# Altium integrated library SWARMUS_LIB.IntLib: 63 symbols
Pins are listed as number, name and electrical type; pins without a type are passive.

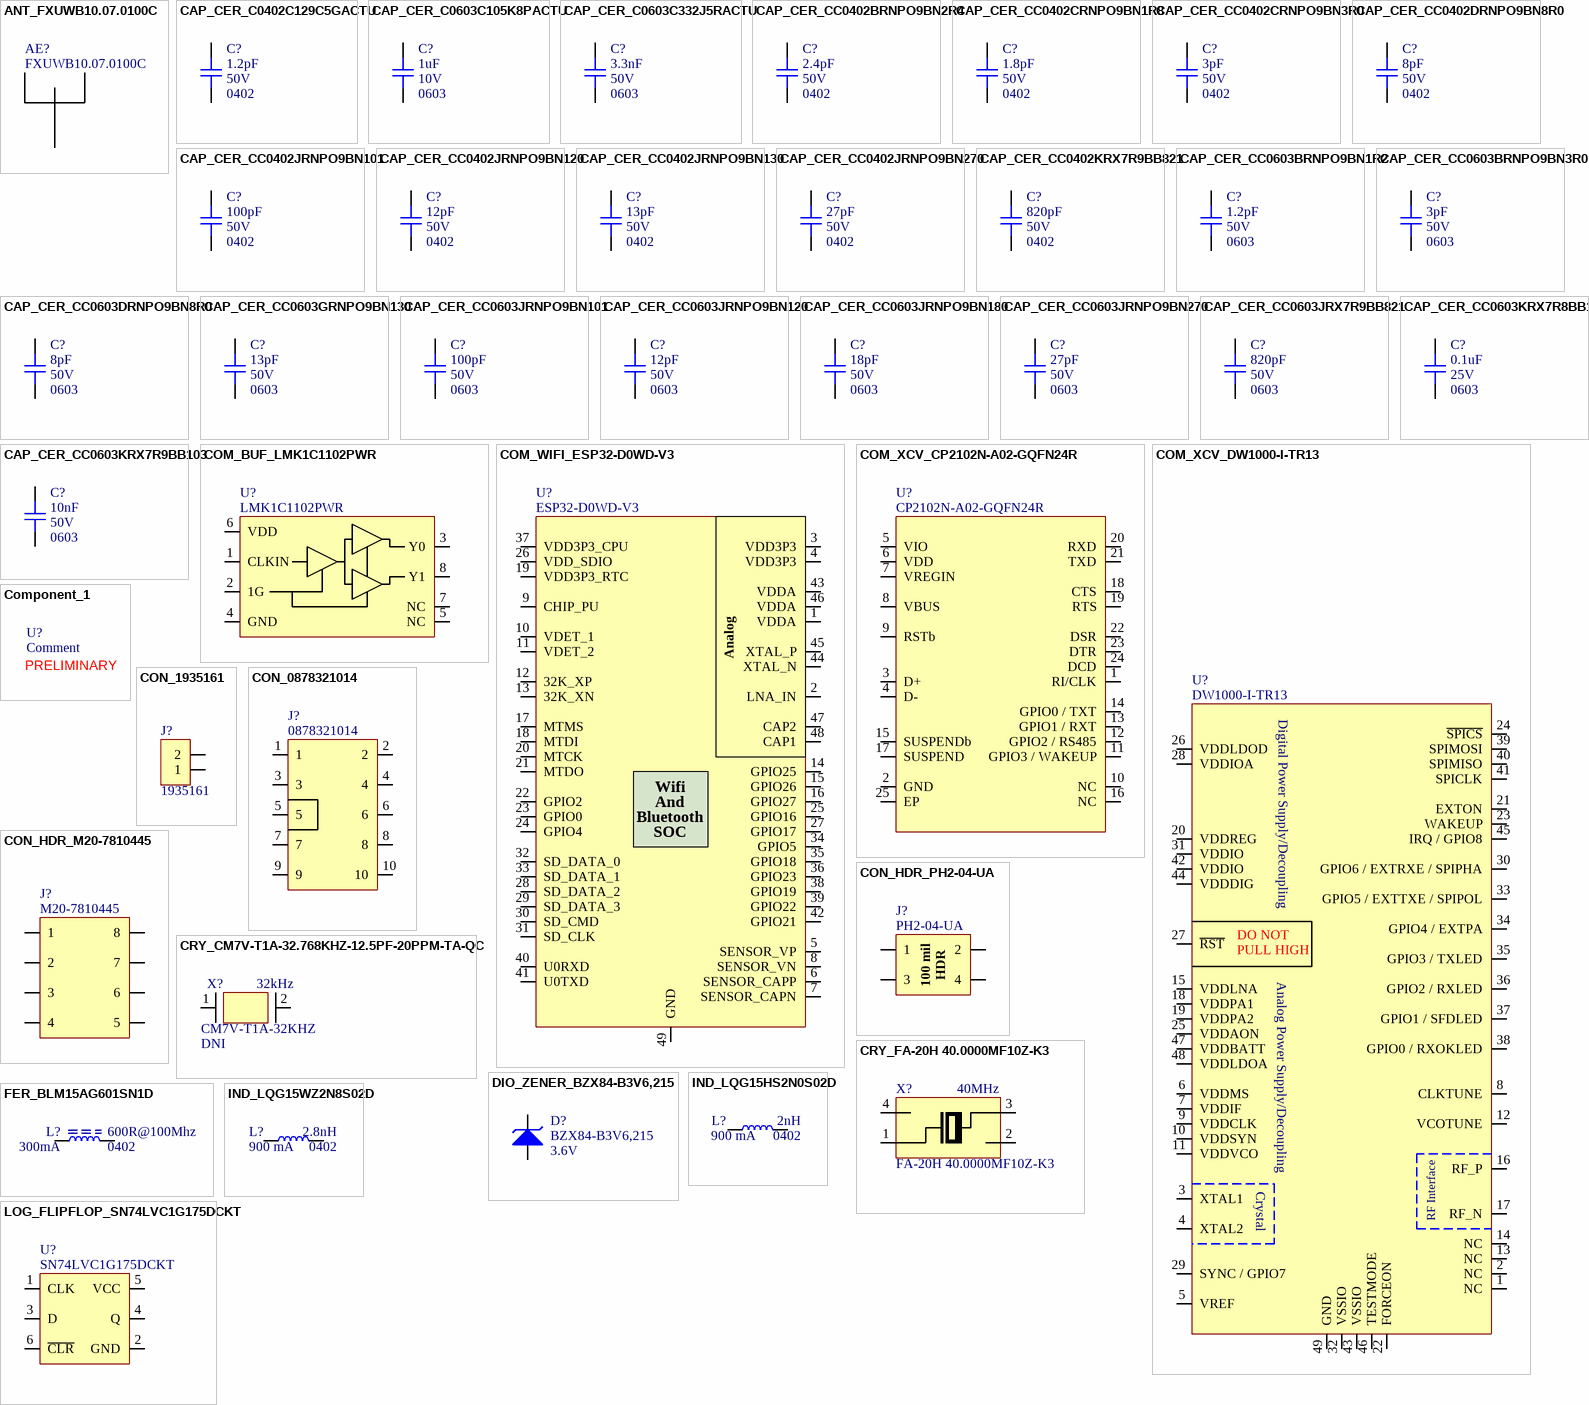
[diagram p0: symbols ANT_FXUWB10.07.0100C to LOG_FLIPFLOP_SN74LVC1G175DCKT]

## ANT_FXUWB10.07.0100C
designator AE?, comment FXUWB10.07.0100C
External antenna - UWB - UMCC plug; Value: 3.0-10.3GHz; GRAMS Lib Spec: 2.8; HelpURL: http://cdn.taoglas.com/datasheets/FXUWB10.07.0100C.pdf; CreatedBy/Date: Philippe Arsenault; Temperature: -40°C to 85°C; Package: 50 ohm; Assembly Type: UMCC plug; Part Number #1: FXUWB10.07.0100C; Supplier 1: Digi-Key; Supplier Part Number 1: 931-1523-ND

## CAP_CER_C0402C129C5GACTU
designator C?, comment value 1.2pF  Package: 0402  Voltage Rating: 50V  (hidden comment: C0402C129C5GACTU)
CAP - CER 1.2pF 50V ±0.25pF C0G, NP0 - 0402; Manufacturer #1: KEMET; GRAMS Lib Spec: 2.8; Magnetic Material: Unknown; Polarized: NO; Assembly Type: SMD; CreatedBy/Date: Philippe Arsenault/ 2020-07-24; Current Rating: *; HelpURL: https://content.kemet.com/datasheets/KEM_C1003_C0G_SMD.pdf; Manufacturer #2: *; Note: *; Part Number #1: C0402C129C5GACTU; Part Number #2: *; Power Max: *; Temperature: -55°C ~ 125°C; Tolerance: ±0.25pF; VerifiedBy: Louis-Daniel Gaulin / 2020-07-29; Cryo: UNKNOWN; Supplier 1: Digi-Key; Supplier Part Number 1: 399-1001-1-ND
footprint CAP_CER_0402 (Ceramic Capacitor - 0402)
pins: 1, 2

## CAP_CER_C0603C105K8PACTU
designator C?, comment value 1uF  Package: 0603  Voltage Rating: 10V  (hidden comment: C0603C105K8PACTU)
CAP - CER 1uF 10V 10% X5R - 0603; Manufacturer #1: KEMET; GRAMS Lib Spec: 2.8; Magnetic Material: Unknown; Polarized: NO; Tolerance: 10%; Current Rating: *; Power Max: *; HelpURL: https://content.kemet.com/datasheets/KEM_C1006_X5R_SMD.pdf; CreatedBy/Date: Hubert Dube - 21/07/20; VerifiedBy: Louis-Daniel Gaulin - 21/07/20; Temperature: -55°C ~ 85°C; Manufacturer #2: *; Assembly Type: SMD; Part Number #2: *; Part Number #1: C0603C105K8PACTU; Cryo: UNKNOWN; Supplier 1: Digi-Key; Supplier Part Number 1: 399-3118-1-ND
footprint CAP_CER_0603 (Ceramic Capacitor - 0603)
pins: 1, 2

## CAP_CER_C0603C332J5RACTU
designator C?, comment value 3.3nF  Package: 0603  Voltage Rating: 50V  (hidden comment: C0603C332J5RACTU)
CAP - CER 3.3nF 50V 5% X7R - 0603; Manufacturer #1: KEMET; GRAMS Lib Spec: 2.8; Magnetic Material: Unknown; Polarized: NO; Tolerance: 5%; Current Rating: *; Power Max: *; HelpURL: http://www.farnell.com/datasheets/2745899.pdf?src-supplier=Newark; CreatedBy/Date: Hubert Dube - 21/07/20; VerifiedBy: Louis-Daniel Gaulin - 21/07/20; Temperature: -55°C ~ 125°C; Manufacturer #2: *; Assembly Type: SMD; Part Number #2: *; Part Number #1: C0603C332J5RACTU; Cryo: UNKNOWN; Supplier 1: Digi-Key; Supplier Part Number 1: 399-7901-1-ND
footprint CAP_CER_0603 (Ceramic Capacitor - 0603)
pins: 1, 2

## CAP_CER_CC0402BRNPO9BN2R4
designator C?, comment value 2.4pF  Package: 0402  Voltage Rating: 50V  (hidden comment: CC0402BRNPO9BN2R4)
CAP - CER 2.4PF 50V C0G/NP0 - 0402; Manufacturer #1: Yageo; Tolerance: ±0.1pF; GRAMS Lib Spec: 2.8; Magnetic Material: Unknown; Polarized: NO; Current Rating: *; Power Max: *; HelpURL: https://www.yageo.com/upload/media/product/productsearch/datasheet/mlcc/UPY-GP_NP0_16V-to-50V_18.pdf; CreatedBy/Date: Hubert Dube - 04/10/20; VerifiedBy: Louis-Daniel Gaulin - 09/11/2020; Temperature: -55°C ~ 125°C; Manufacturer #2: *; Assembly Type: SMD; Part Number #2: *; Part Number #1: CC0402BRNPO9BN2R4; Cryo: UNKNOWN; Supplier 1: Digi-Key; Supplier Part Number 1: 311-3703-1-ND
footprint CAP_CER_0402 (Ceramic Capacitor - 0402)
pins: 1, 2

## CAP_CER_CC0402CRNPO9BN1R8
designator C?, comment value 1.8pF  Package: 0402  Voltage Rating: 50V  (hidden comment: CC0402CRNPO9BN1R8)
CAP - CER 1.8PF 50V C0G/NP0 - 0402; Manufacturer #1: Yageo; Tolerance: ±0.25pF; GRAMS Lib Spec: 2.8; Magnetic Material: Unknown; Polarized: NO; Current Rating: *; Power Max: *; HelpURL: https://www.yageo.com/upload/media/product/productsearch/datasheet/mlcc/UPY-GP_NP0_16V-to-50V_18.pdf; CreatedBy/Date: Hubert Dube - 04/10/20; VerifiedBy: Louis-Daniel Gaulin - 09/11/2020; Temperature: -55°C ~ 125°C; Manufacturer #2: *; Assembly Type: SMD; Part Number #2: *; Part Number #1: CC0402CRNPO9BN1R8; Cryo: UNKNOWN; Supplier 1: Digi-Key; Supplier Part Number 1: 311-1004-1-ND
footprint CAP_CER_0402 (Ceramic Capacitor - 0402)
pins: 1, 2

## CAP_CER_CC0402CRNPO9BN3R0
designator C?, comment value 3pF  Package: 0402  Voltage Rating: 50V  (hidden comment: CC0402CRNPO9BN3R0)
CAP - CER 3pF 50V ±0.25pF C0G, NP0 - 0402; Manufacturer #1: Yageo; GRAMS Lib Spec: 2.8; Magnetic Material: Unknown; Polarized: NO; Assembly Type: SMD; CreatedBy/Date: Philippe Arsenault/ 2020-07-24; Current Rating: *; HelpURL: https://www.yageo.com/upload/media/product/productsearch/datasheet/mlcc/UPY-GP_NP0_16V-to-50V_18.pdf; Manufacturer #2: *; Note: *; Part Number #1: CC0402CRNPO9BN3R0; Part Number #2: *; Power Max: *; Temperature: -55°C ~ 125°C; Tolerance: ±0.25pF; VerifiedBy: Louis-Daniel Gaulin / 2020-07-29; Cryo: UNKNOWN; Supplier 1: Digi-Key; Supplier Part Number 1: 311-1007-1-ND
footprint CAP_CER_0402 (Ceramic Capacitor - 0402)
pins: 1, 2

## CAP_CER_CC0402DRNPO9BN8R0
designator C?, comment value 8pF  Package: 0402  Voltage Rating: 50V  (hidden comment: CC0402DRNPO9BN8R0)
CAP - CER 8PF 50V C0G/NP0 - 0402; Manufacturer #1: Yageo; Tolerance: ±0.5pF; GRAMS Lib Spec: 2.8; Magnetic Material: Unknown; Polarized: NO; Current Rating: *; Power Max: *; HelpURL: https://www.yageo.com/upload/media/product/productsearch/datasheet/mlcc/UPY-GP_NP0_16V-to-50V_18.pdf; CreatedBy/Date: Hubert Dube - 04/10/20; VerifiedBy: Louis-Daniel Gaulin - 09/11/2020; Temperature: -55°C ~ 125°C; Manufacturer #2: *; Assembly Type: SMD; Part Number #2: *; Part Number #1: CC0402DRNPO9BN8R0; Cryo: UNKNOWN; Supplier 1: Digi-Key; Supplier Part Number 1: 311-1639-1-ND
footprint CAP_CER_0402 (Ceramic Capacitor - 0402)
pins: 1, 2

## CAP_CER_CC0402JRNPO9BN101
designator C?, comment value 100pF  Package: 0402  Voltage Rating: 50V  (hidden comment: CC0402JRNPO9BN101)
CAP - CER 100pF 50V ±5% C0G,CP0 - 0402; Manufacturer #1: Yageo; GRAMS Lib Spec: 2.8; Magnetic Material: Unknown; Polarized: NO; Assembly Type: SMD; CreatedBy/Date: Philippe Arsenault/ 2020-07-24; Current Rating: *; HelpURL: https://www.yageo.com/upload/media/product/productsearch/datasheet/mlcc/UPY-GPHC_X7R_6.3V-to-50V_18.pdf; Manufacturer #2: *; Note: *; Part Number #1: CC0402JRNPO9BN101; Part Number #2: *; Power Max: *; Temperature: -55°C ~ 125°C; Tolerance: ±5%; VerifiedBy: Louis-Daniel Gaulin / 2020-07-29; Cryo: UNKNOWN; Supplier 1: Digi-Key; Supplier Part Number 1: 311-1024-1-ND
footprint CAP_CER_0402 (Ceramic Capacitor - 0402)
pins: 1, 2

## CAP_CER_CC0402JRNPO9BN120
designator C?, comment value 12pF  Package: 0402  Voltage Rating: 50V  (hidden comment: CC0402JRNPO9BN120)
CAP - CER 12pF 50V ±5% C0G, NP0 - 0402; Manufacturer #1: Yageo; GRAMS Lib Spec: 2.8; Magnetic Material: Unknown; Polarized: NO; Assembly Type: SMD; CreatedBy/Date: Philippe Arsenault/ 2020-07-24; Current Rating: *; HelpURL: https://www.yageo.com/upload/media/product/productsearch/datasheet/mlcc/UPY-GP_NP0_16V-to-50V_18.pdf; Manufacturer #2: *; Note: *; Part Number #1: CC0402JRNPO9BN120; Part Number #2: *; Power Max: *; Temperature: -55°C ~ 125°C; Tolerance: ±5%; VerifiedBy: Louis-Daniel Gaulin / 2020-07-29; Cryo: UNKNOWN; Supplier 1: Digi-Key; Supplier Part Number 1: 311-1016-1-ND
footprint CAP_CER_0402 (Ceramic Capacitor - 0402)
pins: 1, 2

## CAP_CER_CC0402JRNPO9BN130
designator C?, comment value 13pF  Package: 0402  Voltage Rating: 50V  (hidden comment: CC0402JRNPO9BN130)
CAP - CER 13PF 50V C0G/NP0 - 0402; Manufacturer #1: Yageo; Tolerance: ±5%; GRAMS Lib Spec: 2.8; Magnetic Material: Unknown; Polarized: NO; Current Rating: *; Power Max: *; HelpURL: https://www.yageo.com/upload/media/product/productsearch/datasheet/mlcc/UPY-GP_NP0_16V-to-50V_18.pdf; CreatedBy/Date: Hubert Dube - 04/10/20; VerifiedBy: Louis-Daniel Gaulin - 09/11/2020; Temperature: -55°C ~ 125°C; Manufacturer #2: *; Assembly Type: SMD; Part Number #2: *; Part Number #1: CC0402JRNPO9BN130; Cryo: UNKNOWN; Supplier 1: Digi-Key; Supplier Part Number 1: 311-3754-1-ND
footprint CAP_CER_0402 (Ceramic Capacitor - 0402)
pins: 1, 2

## CAP_CER_CC0402JRNPO9BN270
designator C?, comment value 27pF  Package: 0402  Voltage Rating: 50V  (hidden comment: CC0402JRNPO9BN270)
CAP - CER 27pF 50V ±5% C0G, NP0 - 0402; Manufacturer #1: Yageo; GRAMS Lib Spec: 2.8; Magnetic Material: Unknown; Polarized: NO; Assembly Type: SMD; CreatedBy/Date: Philippe Arsenault/ 2020-07-24; Current Rating: *; HelpURL: https://www.yageo.com/upload/media/product/productsearch/datasheet/mlcc/UPY-GP_NP0_16V-to-50V_18.pdf; Manufacturer #2: *; Note: *; Part Number #1: CC0402JRNPO9BN270; Part Number #2: *; Power Max: *; Temperature: -55°C ~ 125°C; Tolerance: ±5%; VerifiedBy: Louis-Daniel Gaulin / 2020-07-29; Cryo: UNKNOWN; Supplier 1: Digi-Key; Supplier Part Number 1: 311-1019-1-ND
footprint CAP_CER_0402 (Ceramic Capacitor - 0402)
pins: 1, 2

## CAP_CER_CC0402KRX7R9BB821
designator C?, comment value 820pF  Package: 0402  Voltage Rating: 50V  (hidden comment: CC0402KRX7R9BB821)
CAP - CER 820pF 50V ±10% X7R - 0402; Manufacturer #1: Yageo; GRAMS Lib Spec: 2.8; Magnetic Material: Unknown; Polarized: NO; Assembly Type: SMD; CreatedBy/Date: Philippe Arsenault/ 2020-07-24; Current Rating: *; HelpURL: https://www.yageo.com/upload/media/product/productsearch/datasheet/mlcc/UPY-GPHC_X7R_6.3V-to-50V_18.pdf; Manufacturer #2: *; Note: *; Part Number #1: CC0402KRX7R9BB821; Part Number #2: *; Power Max: *; Temperature: -55°C ~ 125°C; Tolerance: ±10%; VerifiedBy: Louis-Daniel Gaulin / 2020-07-29; Cryo: UNKNOWN; Supplier 1: Digi-Key; Supplier Part Number 1: 311-1727-1-ND
footprint CAP_CER_0402 (Ceramic Capacitor - 0402)
pins: 1, 2

## CAP_CER_CC0603BRNPO9BN1R2
designator C?, comment value 1.2pF  Package: 0603  Voltage Rating: 50V  (hidden comment: CC0603BRNPO9BN1R2)
CAP - CER 1.2pF 50V ±0.1pF C0G/NP0 - 0603; Manufacturer #1: Yageo; GRAMS Lib Spec: 2.8; Magnetic Material: UNKNOWN; Polarized: NO; Tolerance: ±0.1pF; Current Rating: *; Power Max: *; HelpURL: https://www.yageo.com/upload/media/product/productsearch/datasheet/mlcc/UPY-GP_NP0_16V-to-50V_18.pdf; CreatedBy/Date: Philippe Arsenault/2020-07-21; VerifiedBy: Louis-Daniel Gaulin / 2020-07-23; Temperature: -55°C ~ 125°C; Manufacturer #2: *; Note: *; Assembly Type: SMD; Part Number #2: *; Part Number #1: CC0603BRNPO9BN1R2; Cryo: UNKNOWN; Supplier 1: Digi-Key; Supplier Part Number 1: 311-3825-1-ND
footprint CAP_CER_0603 (Ceramic Capacitor - 0603)
pins: 1, 2

## CAP_CER_CC0603BRNPO9BN3R0
designator C?, comment value 3pF  Package: 0603  Voltage Rating: 50V  (hidden comment: CC0603BRNPO9BN3R0)
CAP - CER 3pF 50V ±0.1pF C0G/NP0 - 0603; Manufacturer #1: Yageo; GRAMS Lib Spec: 2.8; Magnetic Material: UNKNOWN; Polarized: NO; Tolerance: ±0.1pF; Current Rating: *; Power Max: *; HelpURL: https://www.yageo.com/upload/media/product/productsearch/datasheet/mlcc/UPY-GP_NP0_16V-to-50V_18.pdf; CreatedBy/Date: Philippe Arsenault/2020-07-21; VerifiedBy: Louis-Daniel Gaulin / 2020-07-22; Temperature: -55°C ~ 125°C; Manufacturer #2: *; Note: *; Assembly Type: SMD; Part Number #2: *; Part Number #1: CC0603BRNPO9BN3R0; Cryo: UNKNOWN; Supplier 1: Digi-Key; Supplier Part Number 1: 311-3831-1-ND
footprint CAP_CER_0603 (Ceramic Capacitor - 0603)
pins: 1, 2

## CAP_CER_CC0603DRNPO9BN8R0
designator C?, comment value 8pF  Package: 0603  Voltage Rating: 50V  (hidden comment: CC0603DRNPO9BN8R0)
CAP - CER 8pF 50V ±0.5pF C0G/NP0 - 0603; Manufacturer #1: Yageo; Tolerance: ±0.5pF (6.25%); GRAMS Lib Spec: 2.8; Magnetic Material: Unknown; Polarized: NO; Current Rating: *; Power Max: *; HelpURL: https://www.yageo.com/upload/media/product/productsearch/datasheet/mlcc/UPY-GP_NP0_16V-to-50V_18.pdf; CreatedBy/Date: Hubert Dube - 21/07/20; VerifiedBy: Louis-Daniel Gaulin / 2020-07-22; Temperature: -55°C ~ 125°C; Manufacturer #2: *; Assembly Type: SMD; Part Number #2: *; Part Number #1: CC0603DRNPO9BN8R0; Cryo: UNKNOWN; Supplier 1: Digi-Key; Supplier Part Number 1: 311-1057-1-ND
footprint CAP_CER_0603 (Ceramic Capacitor - 0603)
pins: 1, 2

## CAP_CER_CC0603GRNPO9BN130
designator C?, comment value 13pF  Package: 0603  Voltage Rating: 50V  (hidden comment: CC0603GRNPO9BN130)
CAP - CER 13pF 50V 2% C0G/NP0 - 0603; Manufacturer #1: Yageo; GRAMS Lib Spec: 2.8; Magnetic Material: Unknown; Polarized: NO; Tolerance: 2%; Current Rating: *; Power Max: *; HelpURL: https://www.yageo.com/upload/media/product/productsearch/datasheet/mlcc/UPY-GP_NP0_16V-to-50V_18.pdf; CreatedBy/Date: Hubert Dube - 21/07/20; VerifiedBy: Louis-Daniel Gaulin / 2020-07-22; Temperature: -55°C ~ 125°C; Manufacturer #2: *; Assembly Type: SMD; Part Number #2: *; Part Number #1: CC0603GRNPO9BN130; Cryo: UNKNOWN; Supplier 1: Digi-Key; Supplier Part Number 1: 311-3919-1-ND
footprint CAP_CER_0603 (Ceramic Capacitor - 0603)
pins: 1, 2

## CAP_CER_CC0603JRNPO9BN101
designator C?, comment value 100pF  Package: 0603  Voltage Rating: 50V  (hidden comment: CC0603JRNPO9BN101)
CAP - CER 100pF 50V 5% C0G/NP0 - 0603; Manufacturer #1: Yageo; GRAMS Lib Spec: 2.8; Magnetic Material: Unknown; Polarized: NO; Tolerance: 5%; Current Rating: *; Power Max: *; HelpURL: https://www.yageo.com/upload/media/product/productsearch/datasheet/mlcc/UPY-GP_NP0_16V-to-50V_18.pdf; CreatedBy/Date: Hubert Dube - 21/07/20; VerifiedBy: Louis-Daniel Gaulin - 21/07/20; Temperature: -55°C ~ 125°C; Manufacturer #2: *; Assembly Type: SMD; Part Number #2: *; Part Number #1: CC0603JRNPO9BN101; Cryo: UNKNOWN; Supplier 1: Digi-Key; Supplier Part Number 1: 311-1069-1-ND
footprint CAP_CER_0603 (Ceramic Capacitor - 0603)
pins: 1, 2

## CAP_CER_CC0603JRNPO9BN120
designator C?, comment value 12pF  Package: 0603  Voltage Rating: 50V  (hidden comment: CC0603JRNPO9BN120)
CAP - CER 12pF 50V 5% C0G/NP0 - 0603; Manufacturer #1: Yageo; GRAMS Lib Spec: 2.8; Magnetic Material: Unknown; Polarized: No; Tolerance: 5%; Current Rating: *; Power Max: *; HelpURL: https://www.yageo.com/upload/media/product/productsearch/datasheet/mlcc/UPY-GP_NP0_16V-to-50V_18.pdf; CreatedBy/Date: Philippe Arsenault/2020-07-22; VerifiedBy: Louis-Daniel Gaulin / 2020-07-23; Temperature: -55°C ~ 125°C; Manufacturer #2: *; Note: *; Assembly Type: SMD; Part Number #2: *; Part Number #1: CC0603JRNPO9BN120; Cryo: Unknown; Supplier 1: Digi-Key; Supplier Part Number 1: 311-1059-1-ND
footprint CAP_CER_0603 (Ceramic Capacitor - 0603)
pins: 1, 2

## CAP_CER_CC0603JRNPO9BN180
designator C?, comment value 18pF  Package: 0603  Voltage Rating: 50V  (hidden comment: CC0603JRNPO9BN180)
CAP - CER 18pF 50V 5% C0G/NP0 - 0603; Manufacturer #1: Yageo; GRAMS Lib Spec: 2.8; Magnetic Material: Unknown; Polarized: No; Tolerance: 5%; Current Rating: *; Power Max: *; HelpURL: https://www.yageo.com/upload/media/product/productsearch/datasheet/mlcc/UPY-GP_NP0_16V-to-50V_18.pdf; CreatedBy/Date: Philippe Arsenault/2020-07-22; VerifiedBy: Louis-Daniel Gaulin / 2020-07-23; Temperature: -55°C ~ 125°C; Manufacturer #2: *; Note: *; Assembly Type: SMD; Part Number #2: *; Part Number #1: CC0603JRNPO9BN180; Cryo: Unknown; Supplier 1: Digi-Key; Supplier Part Number 1: 311-1061-1-ND
footprint CAP_CER_0603 (Ceramic Capacitor - 0603)
pins: 1, 2

## CAP_CER_CC0603JRNPO9BN270
designator C?, comment value 27pF  Package: 0603  Voltage Rating: 50V  (hidden comment: CC0603JRNPO9BN270)
CAP - CER 27pF 50V 5% C0G/NP0 - 0603; Manufacturer #1: Yageo; GRAMS Lib Spec: 2.8; Magnetic Material: Unknown; Polarized: No; Tolerance: 5%; Current Rating: *; Power Max: *; HelpURL: https://www.yageo.com/upload/media/product/productsearch/datasheet/mlcc/UPY-GP_NP0_16V-to-50V_18.pdf; CreatedBy/Date: Philippe Arsenault/2020-07-22; VerifiedBy: Louis-Daniel Gaulin / 2020-07-23; Temperature: -55°C ~ 125°C; Manufacturer #2: *; Note: *; Assembly Type: SMD; Part Number #2: *; Part Number #1: CC0603JRNPO9BN270; Cryo: Unknown; Supplier 1: Digi-Key; Supplier Part Number 1: 311-1063-1-ND
footprint CAP_CER_0603 (Ceramic Capacitor - 0603)
pins: 1, 2

## CAP_CER_CC0603JRX7R9BB821
designator C?, comment value 820pF  Package: 0603  Voltage Rating: 50V  (hidden comment: CC0603JRX7R9BB821)
CAP - CER 820pF 50V 5% X7R  - 0603; Manufacturer #1: Yageo; GRAMS Lib Spec: 2.8; Magnetic Material: Unknown; Polarized: No; Tolerance: 5%; Current Rating: *; Power Max: *; HelpURL: https://www.yageo.com/upload/media/product/productsearch/datasheet/mlcc/UPY-GPHC_X7R_6.3V-to-50V_18.pdf; CreatedBy/Date: Philippe Arsenault/2020-07-22; VerifiedBy: Louis-Daniel Gaulin / 2020-07-23; Temperature: -55°C ~ 125°C; Manufacturer #2: *; Note: *; Assembly Type: SMD; Part Number #2: *; Part Number #1: CC0603JRX7R9BB821; Cryo: Unknown; Supplier 1: Digi-Key; Supplier Part Number 1: 311-4023-1-ND
footprint CAP_CER_0603 (Ceramic Capacitor - 0603)
pins: 1, 2

## CAP_CER_CC0603KRX7R8BB104
designator C?, comment value 0.1uF  Package: 0603  Voltage Rating: 25V  (hidden comment: CC0603KRX7R8BB104)
CAP - CER 0.1uF 25V 10% X7R - 0603; Manufacturer #1: Yageo; GRAMS Lib Spec: 2.8; Magnetic Material: Unknown; Polarized: NO; Tolerance: 10%; Current Rating: *; Power Max: *; HelpURL: https://www.yageo.com/upload/media/product/productsearch/datasheet/mlcc/UPY-GPHC_X7R_6.3V-to-50V_18.pdf; CreatedBy/Date: Hubert Dube - 21/07/20; VerifiedBy: Louis-Daniel Gaulin - 21/07/20; Temperature: -55°C ~ 125°C; Manufacturer #2: *; Assembly Type: SMD; Part Number #2: *; Part Number #1: CC0603KRX7R8BB104; Cryo: UNKNOWN; Supplier 1: Digi-Key; Supplier Part Number 1: 311-1341-2-ND
footprint CAP_CER_0603 (Ceramic Capacitor - 0603)
pins: 1, 2

## CAP_CER_CC0603KRX7R9BB103
designator C?, comment value 10nF  Package: 0603  Voltage Rating: 50V  (hidden comment: CC0603KRX7R9BB103)
CAP - CER 10nF 50V 10% X7R - 0603; Manufacturer #1: Yageo; GRAMS Lib Spec: 2.8; Magnetic Material: Unknown; Polarized: NO; Tolerance: 10%; Current Rating: *; Power Max: *; HelpURL: https://www.yageo.com/upload/media/product/productsearch/datasheet/mlcc/UPY-GPHC_X7R_6.3V-to-50V_18.pdf; CreatedBy/Date: Hubert Dube - 21/07/20; VerifiedBy: Louis-Daniel Gaulin - 21/07/20; Temperature: -55°C ~ 125°C; Manufacturer #2: *; Assembly Type: SMD; Part Number #2: *; Part Number #1: CC0603KRX7R9BB103; Cryo: UNKNOWN; Supplier 1: Digi-Key; Supplier Part Number 1: 311-1085-1-ND
footprint CAP_CER_0603 (Ceramic Capacitor - 0603)
pins: 1, 2

## COM_BUF_LMK1C1102PWR
designator U?, comment LMK1C1102PWR
COM - BUF - Clock buffer 3V3, 2V5, 1V8 2 Channel - TSSOP 8; Manufacturer #1: Texas Instruments; Voltage Rating: 1.71V ~ 1.89V, 2.375V ~ 2.625V, 3.135V ~ 3.465V; Current Rating: Input +-20mA ; Output +- 50mA; Power Max: 132mW; GRAMS Lib Spec: 2.8; Magnetic Material: Unknown; Polarized: Yes; Cryo: No; Value: *; Tolerance: *; HelpURL: https://www.ti.com/lit/ds/symlink/lmk1c1102.pdf?ts=1595262014854&ref_url=https%253A%252F%252Fwww.ti.com%252Fproduct%252FLMK1C1102%253Futm_source%253Dgoogle%2526utm_medium%253Dcpc%2526utm_campaign%253Dasc-null-null-GPN_EN-cpc-pf-google-wwe%2526utm_content%253DLMK1C1102%2526ds_k%253DLMK1C1102%2526DCM%253Dyes%2526gclid%253DCjwKCAjwgdX4BRB_EiwAg8O8HUIvo-ksMfq8YInqTklLXWuMoCGXxsnhq04Fqr4kdDFQPSc0fYG9iRoCPvAQAvD_BwE%2526gclsrc%253Daw.ds; CreatedBy/Date: Philippe Arsenault/20-07-2020; VerifiedBy: Louis-Daniel Gaulin / 23-07-2020; Temperature: –40°C to 125°C; Package: TSSOP 8 pin; Note: *; Assembly Type: SMT; Part Number #2: *; Part Number #1: LMK1C1102PWR
footprint COM_BUF_LMK1C1102PWR (TSOP, 8-Leads, Body 3,00x4,40mm, Pitch 0,65mm, IPC Medium Density)
pins: 1 CLKIN, 2 1G, 3 Y0, 4 GND, 5 NC, 6 VDD, 7 NC, 8 Y1

## COM_WIFI_ESP32-D0WD-V3
designator U?, comment ESP32-D0WD-V3
COM_WIFI - IC RF TxRx + MCU, WiFi 802.11b/g/n, Bluetooth 4.2 2.4GHz - 48-VFQFN Exposed Pad; Manufacturer #1: Espressif Systems; Voltage Rating: 2.3-3.63; Current Rating: Rx 100mA/Tx 240mA; Power Max: 900mW; GRAMS Lib Spec: 2.8; Magnetic Material: Unknown; Polarized: Yes; Cryo: No; Value: *; Tolerance: *; HelpURL: https://www.espressif.com/sites/default/files/documentation/esp32_datasheet_en.pdf; CreatedBy/Date: Hubert Dube/14-07-2020; Temperature: -40°C ~ 125°C; Package: VFQFN 48; Manufacturer #2: *; Note: *; Assembly Type: SMD; Part Number #2: *; Part Number #1: ESP32-D0WD-V3; Supplier 1: Digi-Key; Supplier Part Number 1: 1904-ESP32-D0WD-V3CT-ND
footprint COM_WIFI_ESP32-D0WD-V3
pins: 1 VDDA, 2 LNA_IN, 3 VDD3P3, 4 VDD3P3, 5 SENSOR_VP, 6 SENSOR_CAPP, 7 SENSOR_CAPN, 8 SENSOR_VN, 9 CHIP_PU, 10 VDET_1, 11 VDET_2, 12 32K_XP, 13 32K_XN, 14 GPIO25, 15 GPIO26, 16 GPIO27, 17 MTMS, 18 MTDI, 19 VDD3P3_RTC, 20 MTCK, 21 MTDO, 22 GPIO2, 23 GPIO0, 24 GPIO4, 25 GPIO16, 26 VDD_SDIO, 27 GPIO17, 28 SD_DATA_2, 29 SD_DATA_3, 30 SD_CMD, 31 SD_CLK, 32 SD_DATA_0, 33 SD_DATA_1, 34 GPIO5, 35 GPIO18, 36 GPIO23, 37 VDD3P3_CPU, 38 GPIO19, 39 GPIO22, 40 U0RXD, 41 U0TXD, 42 GPIO21, 43 VDDA, 44 XTAL_N, 45 XTAL_P, 46 VDDA, 47 CAP2, 48 CAP1, 49 GND
text: Analog; Wifi; And; Bluetooth; SOC

## COM_XCV_CP2102N-A02-GQFN24R
designator U?, comment CP2102N-A02-GQFN24R
COM_XCV - IC USB TO UART BRIDGE - 24-QFN (4x4); Manufacturer #1: Silicon Labs; Voltage Rating: 3V ~ 3.6V; Current Rating: 9.5mA; Power Max: 35mW; GRAMS Lib Spec: 2.8c; Magnetic Material: Unknown; Polarized: YES; Value: -; Tolerance: -; HelpURL: https://www.silabs.com/documents/public/data-sheets/cp2102n-datasheet.pdf; CreatedBy/Date: Louis-Daniel Gaulin / 06-10-2020; VerifiedBy: Philippe Arsenault/2020-11-06; Temperature: -40°C ~ 85°C (TA); Package: 24-QFN (4x4); Manufacturer #2: -; Note: -; Assembly Type: SMD; Part Number #2: -; Part Number #1: CP2102N-A02-GQFN24R; Supplier 1: Digi-Key; Supplier Part Number 1: 336-5888-1-ND
footprint COM_XCV_CP2102N-A02-GQFN24R (QFN, 24-Leads, Body 4.00x4.00mm, Pitch 0.50mm, Thermal Pad 2.55x2.55mm, IPC Medium Density)
pins: 1 RI/CLK, 2 GND, 3 D+, 4 D-, 5 VIO, 6 VDD, 7 VREGIN, 8 VBUS, 9 RSTb, 10 NC, 11 GPIO3 / WAKEUP, 12 GPIO2 / RS485, 13 GPIO1 / RXT, 14 GPIO0 / TXT, 15 SUSPENDb, 16 NC, 17 SUSPEND, 18 CTS, 19 RTS, 20 RXD, 21 TXD, 22 DSR, 23 DTR, 24 DCD, 25 EP

## COM_XCV_DW1000-I-TR13
designator U?, comment DW1000-I-TR13
COM - IC RF TxRx 802.15.4 IR-UWB DECAWAVE - 48-VFQFN EP; Voltage Rating: 2.8 - 3.6 V; Current Rating: Rx 64mA/Tx 31mA; GRAMS Lib Spec: 2.8; Magnetic Material: Unknown; Polarized: Yes; Cryo: No; Value: *; Tolerance: *; Power Max: *; HelpURL: https://www.decawave.com/sites/default/files/resources/DW1000-Datasheet-V2.12.pdf; CreatedBy/Date: Philippe Arsenault/13-07-2020; Temperature: -40°C ~ 85°C; Package: QFN 48; Manufacturer #1: Decawave; Manufacturer #2: Qorvo; Note: *; Assembly Type: SMT; Part Number #2: *; Part Number #1: DW1000-I-TR13; Supplier 1: Digi-Key; Supplier Part Number 1: 1479-1001-1-ND
footprint COM_XCV_DW1000-I-TR13 (QFN 48 package, 0.5mm pitch)
pins: 1 NC, 2 NC, 3 XTAL1, 4 XTAL2, 5 VREF, 6 VDDMS, 7 VDDIF, 8 CLKTUNE, 9 VDDCLK, 10 VDDSYN, 11 VDDVCO, 12 VCOTUNE, 13 NC, 14 NC, 15 VDDLNA, 16 RF_P, 17 RF_N, 18 VDDPA1, 19 VDDPA2, 20 VDDREG, 21 EXTON, 22 FORCEON, 23 WAKEUP, 24 ~{SPICS}, 25 VDDAON, 26 VDDLDOD, 27 ~{RST}, 28 VDDIOA, 29 SYNC / GPIO7, 30 GPIO6 / EXTRXE / SPIPHA, 31 VDDIO, 32 VSSIO, 33 GPIO5 / EXTTXE / SPIPOL, 34 GPIO4 / EXTPA, 35 GPIO3 / TXLED, 36 GPIO2 / RXLED, 37 GPIO1 / SFDLED, 38 GPIO0 / RXOKLED, 39 SPIMOSI, 40 SPIMISO, 41 SPICLK, 42 VDDIO, 43 VSSIO, 44 VDDDIG, 45 IRQ / GPIO8, 46 TESTMODE, 47 VDDBATT, 48 VDDLDOA, 49 GND
text: Digital Power Supply/Decoupling; DO NOT; PULL HIGH; Analog Power Supply/Decoupling; Crystal; RF Interface

## Component_1
designator U?, comment Comment
XXX - Description - Package; GRAMS Lib Spec: 2.7
text: PRELIMINARY

## CON_1935161
designator J?, comment 1935161
CON - TERM BLK 2POS SIDE ENTRY 5MM PCB - TH - 14-26 AWG; Manufacturer #1: Phoenix Contact; Current Rating: 17.5A; Magnetic Material: Unknown; Polarized: Yes; Voltage Rating: 400V; GRAMS Lib Spec: 2.8; Assembly Type: TH; Manufacturer #2: *; Note: *; Part Number #1: 1935161; Part Number #2: *; Package: TH; Power Max: *; Value: *; Temperature: -40 °C ~ 100 °C; HelpURL: https://media.digikey.com/pdf/Data%20Sheets/Phoenix%20Contact%20PDFs/1935161.pdf; CreatedBy/Date: Louis-Daniel Gaulin / 02-11-2020; Supplier 1: Digi-Key; Supplier Part Number 1: 277-1667-ND; Tolerance: *; VerifiedBy: Philippe Arsenault/2020-11-06; Cryo: UNKNOWN
footprint CON_ 1935161
pins: 1, 2

## CON_0878321014
designator J?, comment 0878321014
CON - HEADER SMD 10POS 2mm - SMD; Manufacturer #1: Molex; GRAMS Lib Spec: 2.8; Magnetic Material: Unknown; Polarized: YES; Value: *; Tolerance: *; Voltage Rating: *; Current Rating: *; Power Max: *; HelpURL: https://www.molex.com/webdocs/datasheets/pdf/en-us/0878321014_PCB_HEADERS.pdf; CreatedBy/Date: Hubert Dube - 8/10/2020; VerifiedBy: Louis-Daniel Gaulin / 12-11-2020; Temperature: -55°C ~ 105 °C; Package: SMD; Manufacturer #2: *; Assembly Type: SMD; Part Number #2: *; Part Number #1: 0878321014; Cryo: UNKNOWN; Supplier 1: Digi-Key; Supplier Part Number 1: WM14376CT-ND
footprint CON_0878321014
pins: 1, 2, 3, 4, 5, 6, 7, 8, 9, 10

## CON_HDR_M20-7810445
designator J?, comment M20-7810445
CONN RCPT 8POS 0.1 GOLD SMD; Manufacturer #1: Harwin Inc.; GRAMS Lib Spec: 2.8; Magnetic Material: Unknown; Polarized: NO; Value: *; Tolerance: *; Voltage Rating: *; Current Rating: *; Power Max: *; HelpURL: https://cdn.harwin.com/pdfs/M20-781.pdf; CreatedBy/Date: Hubert Dube - 31/10/2020; VerifiedBy: Louis-Daniel Gaulin - 09/11/2020; Temperature: -40°C ~ 105°C; Package: SMD; Manufacturer #2: *; Assembly Type: SMD; Part Number #2: *; Part Number #1: M20-7810445; Cryo: UNKNOWN; Supplier 1: Digi-Key; Supplier Part Number 1: 952-3209-ND
footprint CON_HDR_M20-7810445R
pins: 1, 2, 3, 4, 5, 6, 7, 8

## CON_HDR_PH2-04-UA
designator J?, comment PH2-04-UA
CON - Header 4 positions 2x2  0.100" - TH; Manufacturer #1: Adam Tech; Current Rating: 3A; GRAMS Lib Spec: 2.8; Magnetic Material: Unknown; Polarized: Yes; Voltage Rating: 250 VAC; Assembly Type: TH; CreatedBy/Date: Louis-Daniel Gaulin / 30-07-2020; HelpURL: http://www.adam-tech.com/downloader.php?p=PH2-XX-UA.pdf; Manufacturer #2: *; Package: TH; Part Number #2: *; Power Max: *; Supplier 1: Digi-Key; Supplier Part Number 1: 2057-PH2-04-UA-ND; Temperature: -55°C ~ 105°C; Tolerance: *; Value: *; VerifiedBy: Philippe Arsenault/2020-11-06; Part Number #1: PH2-04-UA; Cryo: UNKNOWN
footprint CON_HDR_PH2-04-UA
pins: 1, 2, 3, 4
text: 100 mil; HDR

## CRY_CM7V-T1A-32.768KHZ-12.5PF-20PPM-TA-QC
designator X?, comment CM7V-T1A-32KHZ  value 32kHz  Assembly Note: DNI
CRY - 32.768KHZ tol:20ppm 12.5PF - 2-SMD; Manufacturer #1: Micro Crystal AG; Part Number #1: CM7V-T1A-32.768KHZ-12.5PF-20PPM-TA-QC; Magnetic Material: Unknown; Polarized: No; GRAMS Lib Spec: 2.8; Tolerance: ±20ppm; Assembly Type: SMD; Current Rating: *; Manufacturer #2: *; Note: *; Part Number #2: *; Package: 2-SMD, No Lead; Power Max: *; Voltage rating: *; Temperature: -40°C ~ 85°C; HelpURL: https://www.microcrystal.com/fileadmin/Media/Products/32kHz/Datasheet/CM7V-T1A.pdf; CreatedBy/Date: Hubert Dube - 21/07/20; VerifiedBy: Louis-Daniel Gaulin - 09/11/2020; Cryo: UNKNOWN; Supplier 1: Digi-Key; Supplier Part Number 1: 2195-CM7V-T1A-32.768KHZ-12.5PF-20PPM-TA-QCCT-ND
footprint CRY_CM7V-T1A-32.768KHZ-12.5PF-20PPM-TA-QC (CRY - 32.768KHZ tol:20ppm 12.5PF - 2-SMD)
pins: 1 In/Out, 2 Out/In

## CRY_FA-20H 40.0000MF10Z-K3
designator X?, comment FA-20H 40.0000MF10Z-K3  value 40MHz
CRY - 40MKHZ 10ppm 10PF - 4-SMD; Manufacturer #1: EPSON; Magnetic Material: Unknown; Polarized: No; GRAMS Lib Spec: 2.8; Assembly Type: SMD; Current Rating: *; Manufacturer #2: *; Note: *; Part Number #1: FA-20H 40.0000MF10Z-K3; Part Number #2: *; Package: 4 - SMD, No Lead; Power Max: *; Voltage rating: *; Temperature: -20°C ~ 75°C; HelpURL: https://support.epson.biz/td/api/doc_check.php?dl=brief_FA-20H&lang=en; CreatedBy/Date: Hubert Dube - 21/07/20; Tolerance: ±10ppm; VerifiedBy: Louis-Daniel Gaulin - 09/11/2020; Cryo: UNKNOWN; Supplier 1: Digi-Key; Supplier Part Number 1: SER4045CT-ND
footprint CRY_FA-20H 40.0000MF10Z-K3 (CRY - 40MKHZ 10ppm 10PF - 4-SMD)
pins: 1, 2, 3, 4

## DIO_ZENER_BZX84-B3V6,215
designator D?, comment BZX84-B3V6,215  value 3.6V
DIO - ZENER 3.6V 250mW - SOT-23; Manufacturer #1: Nexperia USA Inc.; Current Rating: 70mA; GRAMS Lib Spec: 2.8; Magnetic Material: Unknown; Polarized: Yes; Tolerance: 2%; Assembly Type: SMD; CreatedBy/Date: Louis-Daniel Gaulin / 30-07-2020; HelpURL: https://assets.nexperia.com/documents/data-sheet/BZX84_SER.pdf; Manufacturer #2: -; Note: -; Package: SOT-23; Part Number #1: BZX84-B3V6,215; Part Number #2: -; Power Max: 250mW; Temperature: -65°C ~ 150°C; VerifiedBy: Philippe Arsenault/2020-11-06; Voltage Rating: 3.6V; Supplier 1: Digi-Key; Supplier Part Number 1: 1727-6252-1-ND; Cryo: UNKNOWN
footprint DIO_ZENER_BZX84-B3V6,215
pins: 1 A, 2 NC hidden, 3 K

## FER_BLM15AG601SN1D
designator L?, comment value 600R@100Mhz  Current Rating: 300mA  Package: 0402  (hidden comment: BLM15AG601SN1D)
FER - FERRITE BEAD 600 OHM@100MHz - 0402; Manufacturer #1: Murata; GRAMS Lib Spec: 2.8; Magnetic Material: YES; Polarized: NO; Cryo: UNKNOWN; Tolerance: *; Voltage Rating: *; Power Max: *; HelpURL: https://www.murata.com/en-us/products/productdata/8796740059166/ENFA0018.pdf; CreatedBy/Date: Philippe Arsenault/2020-07-24; VerifiedBy: Louis-Daniel Gaulin / 2020-07-29; Temperature: -55°C ~ 125°C; Manufacturer #2: *; Note: *; Assembly Type: SMD; Part Number #2: *; Part Number #1: BLM15AG601SN1D; Supplier 1: Digi-Key; Supplier Part Number 1: 490-1006-1-ND
footprint FER_0402 (Ferrite - 0402)
pins: 1, 2

## IND_LQG15HS2N0S02D
designator L?, comment value 2nH  Current Rating: 900 mA  Package: 0402  (hidden comment: LQG15HS2N0S02D)
IND - 2nH 900mA 100mOhm  - 0402; Manufacturer #1: Murata Electronics; Tolerance: 0.3nH; GRAMS Lib Spec: 2.8; Magnetic Material: Unknown; Polarized: NO; Voltage Rating: *; Power Max: *; HelpURL: https://search.murata.co.jp/Ceramy/image/img/P02/JELF243B-0010.pdf; CreatedBy/Date: Hubert Dube  - 21/07/20; VerifiedBy: Louis-Daniel Gaulin - 09/11/2020; Temperature: -55°C ~ 125°C; Manufacturer #2: *; Assembly Type: SMD; Part Number #2: *; Part Number #1: LQG15HS2N0S02D; Cryo: UNKNOWN; Supplier 1: Digi-Key; Supplier Part Number 1: 490-6569-1-ND
footprint FER_0402 (Ferrite - 0402)
pins: 1, 2

## IND_LQG15WZ2N8S02D
designator L?, comment value 2.8nH  Current Rating: 900 mA  Package: 0402  (hidden comment: LQG15WZ2N8S02D)
IND - 2.8nH 900mA 80mOhm  - 0402; Manufacturer #1: Murata Electronics; Tolerance: 0.3nH; GRAMS Lib Spec: 2.8; Magnetic Material: Unknown; Polarized: NO; Voltage Rating: *; Power Max: *; HelpURL: https://search.murata.co.jp/Ceramy/image/img/P02/JELF243B-9117.pdf; CreatedBy/Date: Hubert Dube  - 3/10/20; VerifiedBy: Louis-Daniel Gaulin - 09/11/2020; Temperature: -55°C ~ 125°C; Manufacturer #2: *; Assembly Type: SMD; Part Number #2: *; Part Number #1: LQG15WZ2N8S02D; Cryo: UNKNOWN; Supplier 1: Digi-Key; Supplier Part Number 1: 490-LQG15WZ2N8S02DCT-ND
footprint FER_0402 (Ferrite - 0402)
pins: 1, 2

## LOG_FLIPFLOP_SN74LVC1G175DCKT
designator U?, comment SN74LVC1G175DCKT
LOG_FLIPFLOP - Single D flip-flop with Asynchronous clear - SOT-363; Manufacturer #1: Texas Instruments; Part Number #1: SN74LVC1G175DCKR; Voltage Rating: 1.65V ~ 5.5V; Current Rating: 100mA; GRAMS Lib Spec: 2.8; Magnetic Material: Unknown; Polarized: Yes; Cryo: No; Value: *; Tolerance: *; Power Max: *; HelpURL: https://www.ti.com/lit/ds/symlink/sn74lvc1g175.pdf?ts=1594769483993&ref_url=https%253A%252F%252Fwww.google.com%252F; CreatedBy/Date: Philippe Arsenault/21-07-2020; VerifiedBy: Louis-Daniel Gaulin / 03-10-2020; Temperature: -40°C ~ 125°C; Package: SOT-363; Manufacturer #2: *; Note: *; Assembly Type: SMD; Part Number #2: *; Supplier 1: Digi-Key; Supplier Part Number 1: 296-16998-1-ND
footprint LOG_FLIPFLOP_SN74LVC1G175DCKT (SOT23, 6-Leads, Body 2.00x2.10mm, Pitch 0.65mm, IPC Medium Density)
pins: 1 CLK, 2 GND, 3 D, 4 Q, 5 VCC, 6 ~{CLR}

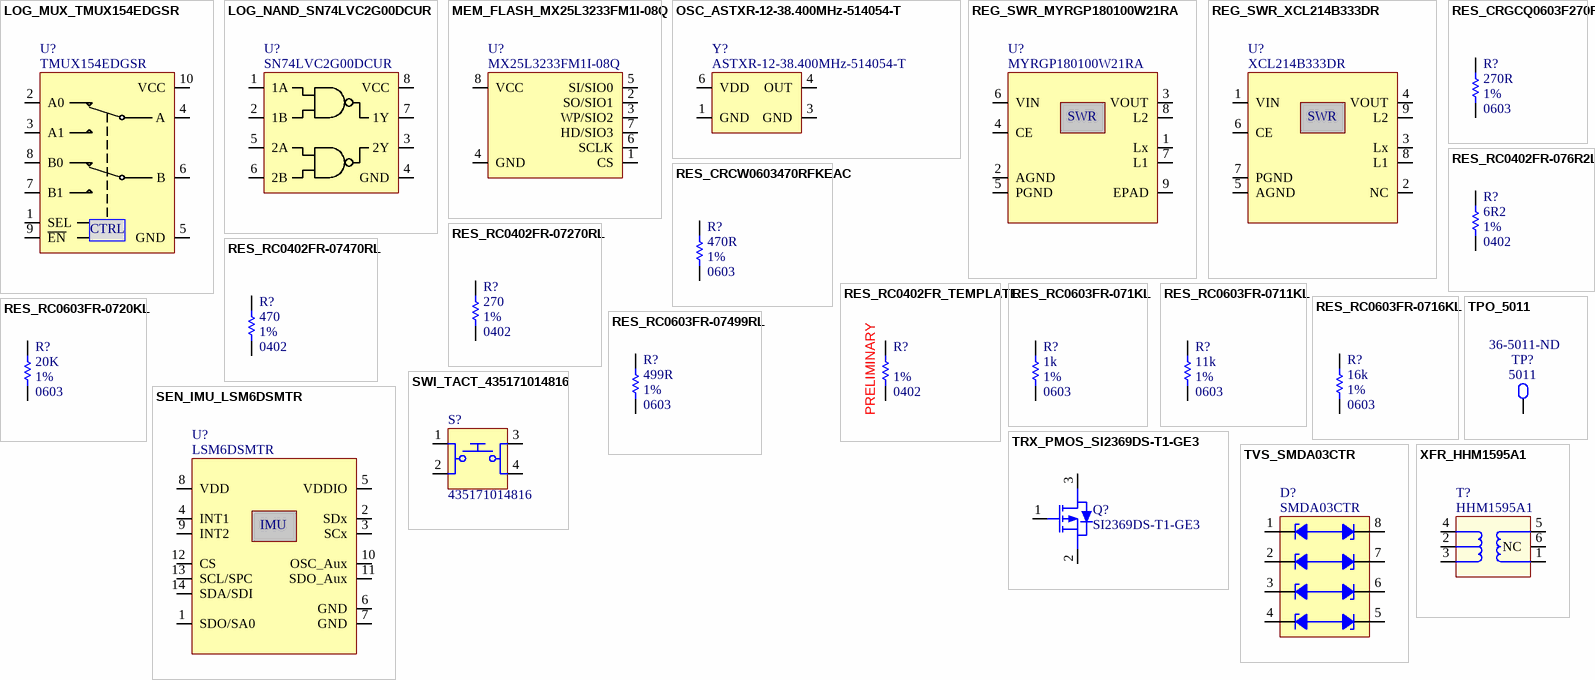
[diagram p1: symbols LOG_MUX_TMUX154EDGSR to XFR_HHM1595A1]

## LOG_MUX_TMUX154EDGSR
designator U?, comment TMUX154EDGSR
LOG_MUX -  SWITCH SPDT DUAL 2:1 - 10-VSSOP; Manufacturer #1: Texas Instruments; Voltage Rating: 3V ~ 4.3V; Current Rating: 10uA; Power Max: 50uW; GRAMS Lib Spec: 2.8C; Magnetic Material: Unknown; Polarized: YES; Value: -; Tolerance: -; HelpURL: https://www.ti.com/lit/ds/symlink/tmux154e.pdf?HQS=TI-null-null-digikeymode-df-pf-null-wwe&ts=1602037764538; CreatedBy/Date: Louis-Daniel Gaulin / 06-10-2020; VerifiedBy: Philippe Arsenault/2020-11-06; Temperature: -40°C ~ 85°C; Package: 10-VSSOP; Manufacturer #2: -; Note: -; Assembly Type: SMD; Part Number #2: -; Part Number #1: TMUX154EDGSR; Supplier 1: Digi-Key; Supplier Part Number 1: 296-48347-1-ND
footprint LOG_MUX_TMUX154EDGSR (TSSOP, 10-Leads, Body 3.00x3.00mm, Pitch 0.50mm, IPC Medium Density)
pins: 1 SEL, 2 A0, 3 A1, 4 A, 5 GND, 6 B, 7 B1, 8 B0, 9 ~{EN}, 10 VCC
text: CTRL

## LOG_NAND_SN74LVC2G00DCUR
designator U?, comment SN74LVC2G00DCUR
LOG_NAND - GATE NAND 2CH 2-INP - 8-VSSOP; Manufacturer #1: Texas Instruments; Voltage Rating: 1.65V ~ 5.5V; Current Rating: +-100mA; GRAMS Lib Spec: 2.8; Magnetic Material: Unknown; Polarized: Yes; Cryo: No; Value: *; Tolerance: *; Power Max: *; HelpURL: https://www.ti.com/lit/ds/symlink/sn74lvc2g00.pdf?HQS=TI-null-null-alldatasheets-df-pf-SEP-wwe; CreatedBy/Date: Philippe Arsenault/21-07-2020; VerifiedBy: Louis-Daniel Gaulin / 23-07-2020; Temperature: -40°C ~ 125°C; Package: 8-VSSOP; Manufacturer #2: *; Note: *; Assembly Type: SMD; Part Number #2: *; Part Number #1: SN74LVC2G00DCUR; Supplier Part Number 1: 296-13258-1-ND; Supplier 1: Digi-key
footprint LOG_NAND_SN74LVC2G00DCUR (SN74LVC2G00)
pins: 1 1A, 2 1B, 3 2Y, 4 GND, 5 2A, 6 2B, 7 1Y, 8 VCC

## MEM_FLASH_MX25L3233FM1I-08Q
designator U?, comment MX25L3233FM1I-08Q
MEM - EFLASH 32Mb SPI 133MHZ - 8-SOIC; Manufacturer #1: Macronix; Value: 32Mb (8M x 4); Voltage Rating: 2.65V ~ 3.6V; GRAMS Lib Spec: 2.8; Magnetic Material: UNKNOWN; Polarized: YES; Tolerance: *; Current Rating: *; Power Max: *; HelpURL: https://www.macronix.com/Lists/Datasheet/Attachments/7426/MX25L3233F,%203V,%2032Mb,%20v1.6.pdf; CreatedBy/Date: Hubert Dube - 22/07/01; Temperature: -40°C ~ 85°C; Package: 8-WSON; Manufacturer #2: *; Note: *; Assembly Type: SMD; Part Number #2: *; Part Number #1: MX25L3233FM1I-08Q; Cryo: UNKNOWN; Supplier 1: Digi-Key; Supplier Part Number 1: 1092-1221-ND
footprint MEM_FLASH_MX25L3233FM1I-08Q (SOIC, 8-Leads, Body 4,90x3,90mm, Pitch 1,27mm, IPC Medium Density)
pins: 1 CS, 2 SO/SIO1, 3 WP/SIO2, 4 GND, 5 SI/SIO0, 6 SCLK, 7 HD/SIO3, 8 VCC

## OSC_ASTXR-12-38.400MHz-514054-T
designator Y?, comment ASTXR-12-38.400MHz-514054-T
OSC - XTAL - ASTXR-12-38.400MHz-514054-T - 38.4MHz TXCO - Clipped sine - 3V3 +-0.5ppm UWB application; Manufacturer #1: Abracon LLC; Voltage Rating: 3.3V; Current Rating: 2mA; GRAMS Lib Spec: 2.8; Magnetic Material: Unknown; Polarized: Yes; Cryo: No; Value: 38.4MHz; Tolerance: *; Power Max: *; HelpURL: https://4donline.ihs.com/images/VipMasterIC/IC/ABRC/ABRC-S-A0001399357/ABRC-S-A0001399357-1.pdf?hkey=52A5661711E402568146F3353EA87419; CreatedBy/Date: Philippe Arsenault/18-07-2020; VerifiedBy: Louis-Daniel Gaulin / 03-10-2020; Temperature: -40°C ~ 85°C; Package: 6-SMD; Manufacturer #2: Rakon; Note: *; Assembly Type: SMT; Part Number #2: *; Part Number #1: ASTXR-12-38.400MHz-514054-T; Supplier 1: Digi-Key; Supplier Part Number 1: 535-13192-1-ND
footprint OSC_ASTXR-12-38.400MHZ-514054-T
pins: 1 GND, 3 GND, 4 OUT, 6 VDD

## REG_SWR_MYRGP180100W21RA
designator U?, comment MYRGP180100W21RA
REG_DC DC CONVERTER 1.8V 1.8W_8-PowerTDFN; Manufacturer #1: Murata Power Solutions Inc.; Voltage Rating: 2.5V to 5.5V IN; Current Rating: 1A; GRAMS Lib Spec: 2.8; Magnetic Material: Unknown; Polarized: Yes; Value: 1.8V; Tolerance: *; Power Max: *; HelpURL: https://www.murata.com/products/productdata/8807036026910/MYRGP-b-w.pdf?1583754814000; CreatedBy/Date: Louis-Daniel Gaulin / 21-07-2020; VerifiedBy: Philippe Arsenault/2020-11-06; Temperature: -40°C~105°C; Package: 8-PowerTDFN; Manufacturer #2: *; Note: *; Assembly Type: SMD; Part Number #2: *; Part Number #1: MYRGP180100W21RA; Supplier 1: Digi-Key; Supplier Part Number 1: 811-MYRGP180100W21RACT-ND; Cryo: UNKNOWN
footprint REG_SWR_MYRGP180100W21RA
pins: 1 Lx, 2 AGND, 3 VOUT, 4 CE, 5 PGND, 6 VIN, 7 L1, 8 L2, 9 EPAD
text: SWR

## REG_SWR_XCL214B333DR
designator U?, comment XCL214B333DR
REG_DC DC CONVERTER 3.3V 5W_9-PowerTFQFN; Manufacturer #1: Torex Semiconductor Ltd; Voltage Rating: 2.7V to 5.5V IN; Current Rating: 1.5A; GRAMS Lib Spec: 2.8; Magnetic Material: Unknown; Polarized: Yes; Value: 3.3V; Tolerance: *; Power Max: *; HelpURL: https://www.torexsemi.com/file/xcl213/XCL213-XCL214.pdf; CreatedBy/Date: Louis-Daniel Gaulin / 21-07-2020; VerifiedBy: Philippe Arsenault/2020-11-06; Temperature: -40°C ~ 105°C; Package: 9-PowerTFQFN; Manufacturer #2: *; Note: *; Assembly Type: SMD; Part Number #2: *; Part Number #1: XCL214B333DR; Supplier 1: Digi-Key; Supplier Part Number 1: 893-1218-1-ND; Cryo: UNKNOWN
footprint REG_SWR_XCL214B333DR
pins: 1 VIN, 2 NC, 3 Lx, 4 VOUT, 5 AGND, 6 CE, 7 PGND, 8 L1, 9 L2
text: SWR

## RES_CRCW0603470RFKEAC
designator R?, comment value 470R  Tolerance: 1%  Package: 0603  (hidden comment: CRCW0603470RFKEAC)
RES - 470R 1% 1/10W - 0603; Manufacturer #1: Vishay Dale; GRAMS Lib Spec: 2.8; Magnetic Material: Unknown; Polarized: No; Voltage Rating: 75V; Assembly Type: SMD; CreatedBy/Date: Philippe Arsenault/2020-07-14; Current Rating: *; HelpURL: https://www.vishay.com/docs/28773/crcwce3.pdf; Manufacturer #2: *; Note: *; Part Number #1: CRCW0603470RFKEAC; Part Number #2: *; Power Max: 1/10W; Temperature: -55°C ~ 155°C; VerifiedBy: Louis-Daniel Gaulin / 2020-07-22; Supplier 1: Digi-Key; Supplier Part Number 1: 541-4038-1-ND
footprint RES_0603 (Resistor - 0603)
pins: 1, 2

## RES_CRGCQ0603F270R
designator R?, comment value 270R  Tolerance: 1%  Package: 0603  (hidden comment: CRGCQ0603F270R)
RES - 270R 1% 1/10W - 0603; Manufacturer #1: TE Connectivity Passive Product; GRAMS Lib Spec: 2.8; Magnetic Material: Unknown; Polarized: No; Voltage Rating: 75V; Assembly Type: SMD; CreatedBy/Date: Philippe Arsenault/2020-07-22; Current Rating: *; HelpURL: https://www.te.com/commerce/DocumentDelivery/DDEController?Action=srchrtrv&DocNm=1773204-3&DocType=DS&DocLang=English; Manufacturer #2: *; Note: *; Part Number #1: CRGCQ0603F270R; Part Number #2: *; Power Max: 1/10W; Temperature: -55°C ~ 155°C; VerifiedBy: Louis-Daniel Gaulin / 2020-07-23; Supplier 1: Digi-Key; Supplier Part Number 1: A129681CT-ND
footprint RES_0603 (Resistor - 0603)
pins: 1, 2

## RES_RC0402FR-076R2L
designator R?, comment value 6R2  Tolerance: 1%  Package: 0402  (hidden comment: RC0402FR-076R2L)
RES - 6.2R 1% 1/16W - 0402; Manufacturer #1: Yageo; Part Number #1: RC0402JR-076R2L; GRAMS Lib Spec: 2.8c; Magnetic Material: Unknown; Polarized: No; Voltage Rating: 50V; Assembly Type: SMD; CreatedBy/Date: Hubert Dubé 04/10/2020; Current Rating: *; HelpURL: https://www.yageo.com/upload/media/product/productsearch/datasheet/rchip/PYu-RC_Group_51_RoHS_L_11.pdf; Manufacturer #2: *; Note: *; Part Number #2: *; Power Max: 1/16W; Temperature: -55°C ~ 155°C; VerifiedBy: Louis-Daniel Gaulin - 09/11/2020; Supplier 1: Digi-Key; Supplier Part Number 1: 13-RC0402FR-076R2LCT-ND
footprint RES_0402 (Resistor - 0402)
pins: 1, 2

## RES_RC0402FR-07270RL
designator R?, comment value 270  Tolerance: 1%  Package: 0402  (hidden comment: RC0402FR-07270RL)
RES - 270R 1% 1/16W - 0402; Manufacturer #1: Yageo; GRAMS Lib Spec: 2.8c; Magnetic Material: Unknown; Polarized: No; Voltage Rating: 50V; Assembly Type: SMD; CreatedBy/Date: Philippe Arsenault 2020-07-24; Current Rating: *; HelpURL: https://www.yageo.com/upload/media/product/productsearch/datasheet/rchip/PYu-RC_Group_51_RoHS_L_10.pdf; Manufacturer #2: *; Note: *; Part Number #1: RC0402FR-07270RL; Part Number #2: *; Power Max: 1/16W; Temperature: -55°C ~ 155°C; VerifiedBy: Louis-Daniel Gaulin / 03-10-2020; Supplier 1: Digi-Key; Supplier Part Number 1: 311-270LRCT-ND
footprint FER_0402 (Ferrite - 0402)
pins: 1, 2

## RES_RC0402FR-07470RL
designator R?, comment value 470  Tolerance: 1%  Package: 0402  (hidden comment: RC0402FR-07470RL)
RES - 470R 1% 1/16W - 0402; Manufacturer #1: Yageo; GRAMS Lib Spec: 2.8c; Magnetic Material: Unknown; Polarized: No; Voltage Rating: 50V; Assembly Type: SMD; CreatedBy/Date: Philippe Arsenault 2020-07-24; Current Rating: *; HelpURL: https://www.yageo.com/upload/media/product/productsearch/datasheet/rchip/PYu-RC_Group_51_RoHS_L_10.pdf; Manufacturer #2: *; Note: *; Part Number #1: RC0402FR-07470RL; Part Number #2: *; Power Max: 1/16W; Temperature: -55°C ~ 155°C; VerifiedBy: Louis-Daniel Gaulin / 03-10-2020; Supplier 1: Digi-Key; Supplier Part Number 1: 311-470LRCT-ND
footprint RES_0402 (Resistor - 0402)
pins: 1, 2

## RES_RC0402FR_TEMPLATE
designator R?, comment Tolerance: 1%  Package: 0402  (hidden comment: RC0402FR- XXXXX)
RES - XXXX 1% 1/16W - 0402; Manufacturer #1: Yageo; GRAMS Lib Spec: 2.8c; Magnetic Material: Unknown; Polarized: No; Voltage Rating: 50V; Assembly Type: SMD; CreatedBy/Date: Louis-Daniel Gaulin; Current Rating: *; Manufacturer #2: *; Note: *; Part Number #2: *; Power Max: 1/16W; Temperature: -55°C ~ 155°C; Supplier 1: Digi-Key
footprint RES_0402 (Resistor - 0402)
pins: 1, 2
text: PRELIMINARY

## RES_RC0603FR-071KL
designator R?, comment value 1k  Tolerance: 1%  Package: 0603  (hidden comment: RC0603FR-071KL)
RES - 1k 1% 1/10W - 0603; Manufacturer #1: Yageo; GRAMS Lib Spec: 2.8; Magnetic Material: Unknown; Polarized: No; Voltage Rating: 75V; Assembly Type: SMD; CreatedBy/Date: Hubert Dube / 22-07-21; Current Rating: *; HelpURL: https://www.yageo.com/upload/media/product/productsearch/datasheet/rchip/PYu-RC_Group_51_RoHS_L_11.pdf; Manufacturer #2: *; Note: *; Part Number #1: RC0603FR-071KL; Part Number #2: *; Power Max: 1/10W; Temperature: -55°C ~ 155°C; VerifiedBy: Louis-Daniel Gaulin / 2020-07-23; Supplier 1: Digi-Key; Supplier Part Number 1: 311-1.00KHRCT-ND
footprint RES_0603 (Resistor - 0603)
pins: 1, 2

## RES_RC0603FR-0711KL
designator R?, comment value 11k  Tolerance: 1%  Package: 0603  (hidden comment: RC0603FR-0711KL)
RES - 11k 1% 1/10W - 0603; Manufacturer #1: Yageo; GRAMS Lib Spec: 2.8; Magnetic Material: Unknown; Polarized: No; Voltage Rating: 75V; Assembly Type: SMD; CreatedBy/Date: Philippe Arsenault/2020-07-14; Current Rating: *; HelpURL: https://www.yageo.com/upload/media/product/productsearch/datasheet/rchip/PYu-RC_Group_51_RoHS_L_10.pdf; Manufacturer #2: *; Note: *; Part Number #1: RC0603FR-0711KL; Part Number #2: *; Power Max: 1/10W; Temperature: -55°C ~ 155°C; VerifiedBy: Louis-Daniel Gaulin / 2020-07-22; Supplier 1: Digi-Key; Supplier Part Number 1: 311-11.0KHRCT-ND
footprint RES_0603 (Resistor - 0603)
pins: 1, 2

## RES_RC0603FR-0716KL
designator R?, comment value 16k  Tolerance: 1%  Package: 0603  (hidden comment: RC0603FR-0716KL)
RES - 16k 1% 1/10W - 0603; Manufacturer #1: Yageo; GRAMS Lib Spec: 2.8; Magnetic Material: Unknown; Polarized: No; Voltage Rating: 75V; Assembly Type: SMD; CreatedBy/Date: Philippe Arsenault/2020-07-22; Current Rating: *; HelpURL: https://www.yageo.com/upload/media/product/productsearch/datasheet/rchip/PYu-RC_Group_51_RoHS_L_10.pdf; Manufacturer #2: *; Note: *; Part Number #1: RC0603FR-0716KL; Part Number #2: *; Power Max: 1/10W; Temperature: -55°C ~ 155°C; VerifiedBy: Louis-Daniel Gaulin / 2020-07-23; Supplier 1: Digi-Key; Supplier Part Number 1: 311-16.0KHRCT-ND
footprint RES_0603 (Resistor - 0603)
pins: 1, 2

## RES_RC0603FR-0720KL
designator R?, comment value 20K  Tolerance: 1%  Package: 0603  (hidden comment: RC0603FR-0720KL)
RES - 20K 1% 1/10W - 0603; Manufacturer #1: Yageo; GRAMS Lib Spec: 2.8; Magnetic Material: Unknown; Polarized: No; Voltage Rating: 75V; Assembly Type: SMD; CreatedBy/Date: Hubert Dube / 20-07-20; Current Rating: *; HelpURL: https://www.yageo.com/upload/media/product/productsearch/datasheet/rchip/PYu-RC_Group_51_RoHS_L_11.pdf; Manufacturer #2: *; Note: *; Part Number #1: RC0603FR-0720KL; Part Number #2: *; Power Max: 1/10W; Temperature: -55°C ~ 155°C; VerifiedBy: Louis-Daniel Gaulin - 21/07/20; Supplier 1: Digi-Key; Supplier Part Number 1: 311-20.0KHRCT-ND
footprint RES_0603 (Resistor - 0603)
pins: 1, 2

## RES_RC0603FR-07499RL
designator R?, comment value 499R  Tolerance: 1%  Package: 0603  (hidden comment: RC0603FR-07499RL)
RES - 499R 1% 1/10W - 0603; Manufacturer #1: Yageo; GRAMS Lib Spec: 2.8; Magnetic Material: Unknown; Polarized: No; Voltage Rating: 75V; Assembly Type: SMD; CreatedBy/Date: Hubert Dube / 20-07-20; Current Rating: *; HelpURL: https://www.yageo.com/upload/media/product/productsearch/datasheet/rchip/PYu-RC_Group_51_RoHS_L_11.pdf; Manufacturer #2: *; Note: *; Part Number #1: RC0603FR-07499RL; Part Number #2: *; Power Max: 1/10W; Temperature: -55°C ~ 155°C; VerifiedBy: Louis-Daniel Gaulin - 21/07/20; Supplier 1: Digi-Key; Supplier Part Number 1: 311-499HRCT-ND
footprint RES_0603 (Resistor - 0603)
pins: 1, 2

## SEN_IMU_LSM6DSMTR
designator U?, comment LSM6DSMTR
SEN_IMU -  ACCEL/GYRO 6 Axis I2C/SPI - 14-VFLGA; Manufacturer #1: STMicroelectronics; Voltage Rating: 1.71V ~ 3.6V; Current Rating: 0.65mA; Power Max: 3mW; GRAMS Lib Spec: 2.7c; Magnetic Material: Unknown; Polarized: YES; Value: -; Tolerance: -; HelpURL: https://www.st.com/content/ccc/resource/technical/document/datasheet/76/27/cf/88/c5/03/42/6b/DM00218116.pdf/files/DM00218116.pdf/jcr:content/translations/en.DM00218116.pdf; CreatedBy/Date: Louis-Daniel Gaulin / 06-10-2020; VerifiedBy: Philippe Arsenault/2020-11-06; Temperature: -40°C ~ 85°C (TA); Package: 14-VFLGA; Manufacturer #2: -; Note: -; Assembly Type: SMD; Part Number #2: -; Part Number #1: LSM6DSMTR; Supplier 1: Digi-Key; Supplier Part Number 1: 497-16696-1-ND
footprint SEN_IMU_LSM6DSMTR
pins: 1 SDO/SA0, 2 SDx, 3 SCx, 4 INT1, 5 VDDIO, 6 GND, 7 GND, 8 VDD, 9 INT2, 10 OSC_Aux, 11 SDO_Aux, 12 CS, 13 SCL/SPC, 14 SDA/SDI
text: IMU

## SWI_TACT_435171014816
designator S?, comment 435171014816
SWI - SWITCH TACTILE SPST-NO 0.05A 12V -SMD; Manufacturer #1: Würth Elektronik; Current Rating: 50mA; Voltage rating: 12VDC; Polarized: No; Magnetic Material: UNKNOWN; GRAMS Lib Spec: 2.8; Manufacturer #2: *; Power Max: *; Value: SPST-NO; Part Number #1: 435171014816; Part Number #2: *; HelpURL: https://www.we-online.com/catalog/datasheet/435171014816.pdf; Supplier 1: Digi-Key; Supplier Part Number 1: 732-435171014816CT-ND; Assembly Type: SMD; Temperature: -40°C ~ 85°C; Package: SMD; CreatedBy/Date: Hubert Dube - 22/07/20; Tolerance: *; VerifiedBy: Louis-Daniel Gaulin / 12-11-2020; Cryo: UNKNOWN
footprint SWI_TACT_435171014816
pins: 1, 2, 3, 4

## TPO_5011
designator TP?, comment 5011  Supplier Part Number 1: 36-5011-ND
TPO - TEST POINT - TH; Manufacturer #1: Keystone Electronics; Polarized: No; Magnetic Material: UNKNOWN; GRAMS Lib Spec: 2.8; Current Rating: *; Manufacturer #2: *; Note: *; Power Max: *; Value: *; Part Number #1: 5011; Part Number #2: *; HelpURL: https://www.keyelco.com/userAssets/file/M65p56.pdf; Assembly Type: TH; Package: *; CreatedBy/Date: Louis-Daniel Gauli / 02-11-2020; Temperature: *; Tolerance: *; VerifiedBy: Philippe Arsenault/2020-11-06; Voltage Rating: *; Cryo: UNKNOWN; Supplier 1: Digi-Key
footprint TPO_5011
pins: 1

## TRX_PMOS_SI2369DS-T1-GE3
designator Q?, comment SI2369DS-T1-GE3
TRX - PMOS 30V 7.6A - SOT−23; Manufacturer #1: Vishay Siliconix; GRAMS Lib Spec: 2.8; Magnetic Material: Unknown; Polarized: Yes; Power Max: 1.25W; Assembly Type: SMD; CreatedBy/Date: Louis-Daniel Gaulin / 30-07-2020; Current Rating: 7.6A; HelpURL: https://www.vishay.com/docs/62865/si2369d.pdf; Manufacturer #2: *; Package: SOT-23; Part Number #1: SI2369DS-T1-GE3; Part Number #2: *; Supplier 1: Digi-Key; Supplier Part Number 1: SI2369DS-T1-GE3CT-ND; Temperature: -55°C ~ 150°C; Tolerance: *; Value: *; VerifiedBy: Philippe Arsenault/2020-11-06; Voltage Rating: 30V; Cryo: UNKNOWN
footprint TRX_PMOS_SI2369DS-T1-GE3
pins: 1 G, 2 S, 3 D

## TVS_SMDA03CTR
designator D?, comment SMDA03CTR
TVS - TVS DIODE 3.3V 7V - 8-SOIC; Manufacturer #1: SMC Diode Solutions; Power Max: 300W (Peak); Value: 4 bidirectionnal channels; Voltage rating: 3V3; Polarized: YES; Magnetic Material: UNKNOWN; GRAMS Lib Spec: 2.8; Current Rating: *; Manufacturer #2: *; Part Number #1: SMDA03CTR; Part Number #2: *; HelpURL: http://www.smc-diodes.com/propdf/SMDA03C%20THRU%20SMDA24C%20N0297%20REV.B.pdf; Note: *; Assembly Type: SMD; Temperature: -55°C ~ 125°C; Package: 8-SOIC; CreatedBy/Date: Hubert Dube - 3/10/20; Tolerance: *; VerifiedBy: Louis-Daniel Gaulin; Cryo: UNKNOWN; Supplier 1: Digi-Key; Supplier Part Number 1: 1655-1699-1-ND
footprint TVS_SMDA03CTR (TVS - TVS DIODE 3.3V 7V - 8-SOIC)
pins: 1, 2, 3, 4, 5, 6, 7, 8

## XFR_HHM1595A1
designator T?, comment HHM1595A1
XFR - Imp Unbalaced/Balanced 50/100 3-8GHz  -SMD; Manufacturer #1: TDK; Value: 3GHz  ~ 8GHz; GRAMS Lib Spec: 2.8; Magnetic Material: Unknown; Polarized: Yes; Tolerance: *; Voltage Rating: *; Current Rating: *; Power Max: *; HelpURL: https://product.tdk.com/info/en/documents/data_sheet/rf_balun_hhm1595a1_en.pdf; CreatedBy/Date: Philippe Arsenault/2020-21-07; VerifiedBy: Louis-Daniel Gaulin / 03-10-2020; Temperature: -40°C ~ 85°C; Package: 0805; Manufacturer #2: *; Note: *; Assembly Type: MT; Part Number #2: *; Part Number #1: HHM1595A1; Supplier 1: Digi-Key; Supplier Part Number 1: 445-3387-1-ND
footprint XFR_HHM1595A1 (HHM1595A1)
pins: 1, 2 GND, 3, 4, 5, 6 NC